# Altium schematic symbol library 93C46A_56A_66A_DFN.SchLib: 1 symbol
Pins are listed as number, name and electrical type; pins without a type are passive.

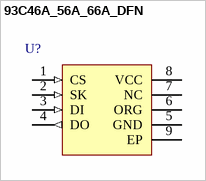
[diagram p0: symbol 93C46A_56A_66A_DFN]

## 93C46A_56A_66A_DFN
designator U?
pins: 1 CS (in), 2 SK (in), 3 DI (in), 4 DO (out), 5 GND (power), 6 ORG, 7 NC, 8 VCC (power), 9 EP (power)